# EAGLE library part AS-ITM-00229 (library tinycircuits)
POT JOYSTICK 10K OHM W/SWITCH
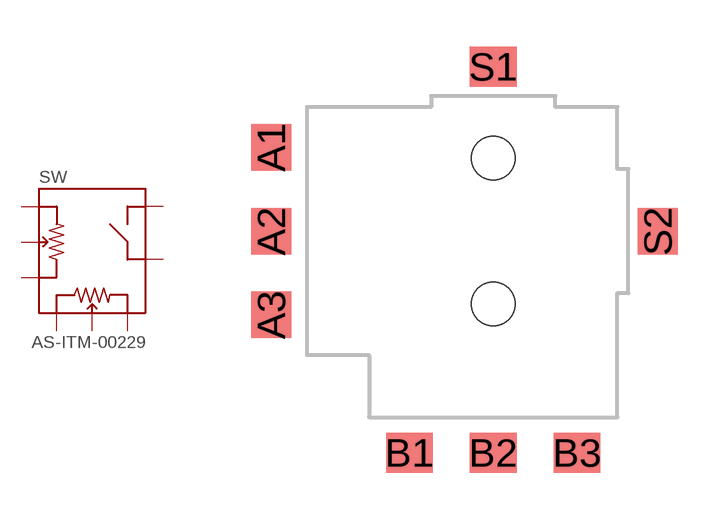
[diagram p97: symbol with the pads of JOYSTICK_CTS_254; footprint JOYSTICK_CTS_254]

Designator prefix SW

## AS-ITM-00229 (PARTNO: AS-ITM-00229; VALUE: 254SA104B50B)  [JOYSTICK_CTS_254]
A1  A1
A2  A2
A3  A3
B1  B1
B2  B2
B3  B3
S1  S1
S2  S2

## Footprint JOYSTICK_CTS_254 (pad centres in mm)
smd 1.3 x 1.5: A1 -7.15,2.7; A2 -7.15,0; A3 -7.15,-2.7; S2 5.3,0
smd 1.5 x 1.3: B1 -2.7,-7.15; B2 0,-7.15; B3 2.7,-7.15; S1 0,5.3
hole 1.4 at 0,-2.35
hole 1.4 at 0,2.35